# Altium footprint library 4-SMD.PcbLib: 1 footprints
Each footprint in its own frame and in the unit in brackets; x right, y up, seen from the top. Pads: shape width x height; smd on the part's side, far side on the other; paste and mask are expansions set on the pad; w line width, h text height; cw(c..) or ccw(c..) is an arc to the next point about the centre after c.
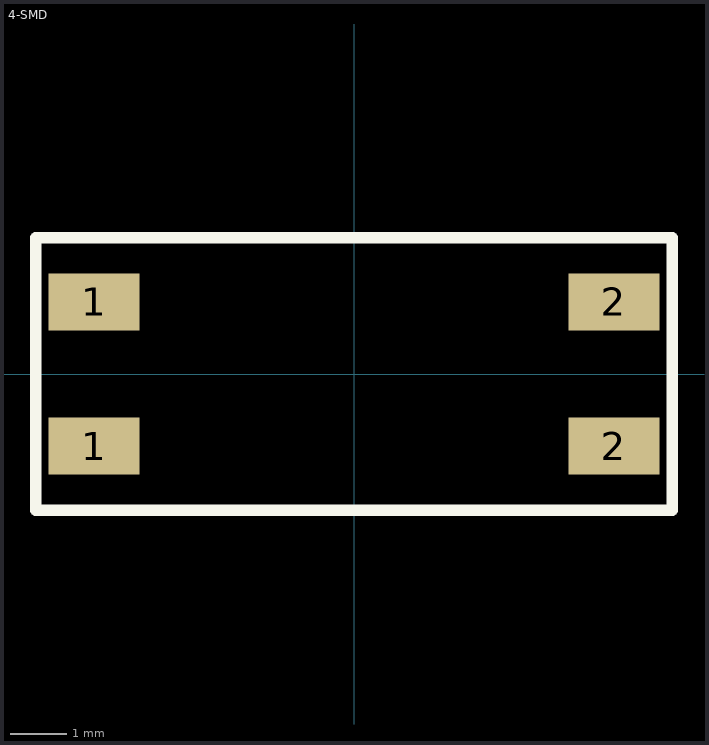
[diagram p0: the footprint, top view; thin cyan lines are the x and y axes]

## 4-SMD [mm]
height 0.55
pads (4):
  rect 1.6x1 smd: 1(-4.575,-1.27) 1(-4.575,1.27) 2(4.575,-1.27) 2(4.575,1.27)
Top Overlay:
  lines w0.2: -5.6,-2.4 -5.6,2.4 5.6,2.4 5.6,-2.4 -5.6,-2.4
Top Assembly:
  lines w0.1: -5.6,-2.4 5.6,-2.4 5.6,-0.6 5.6,0.8 5.6,2.4 -5.6,2.4 -5.6,-2.4
  text "'.Designator'" at -0.975,-0.35 h0.7
3D body "User Library-PC817_Gullwing.STEP": height 3.85, standoff 0, extent -5,-2.29 5,2.29